# Altium footprint library MOLEX_53261.PcbLib: 1 footprints
Each footprint in its own frame and in the unit in brackets; x right, y up, seen from the top. Pads: shape width x height; smd on the part's side, far side on the other; paste and mask are expansions set on the pad; w line width, h text height; cw(c..) or ccw(c..) is an arc to the next point about the centre after c.
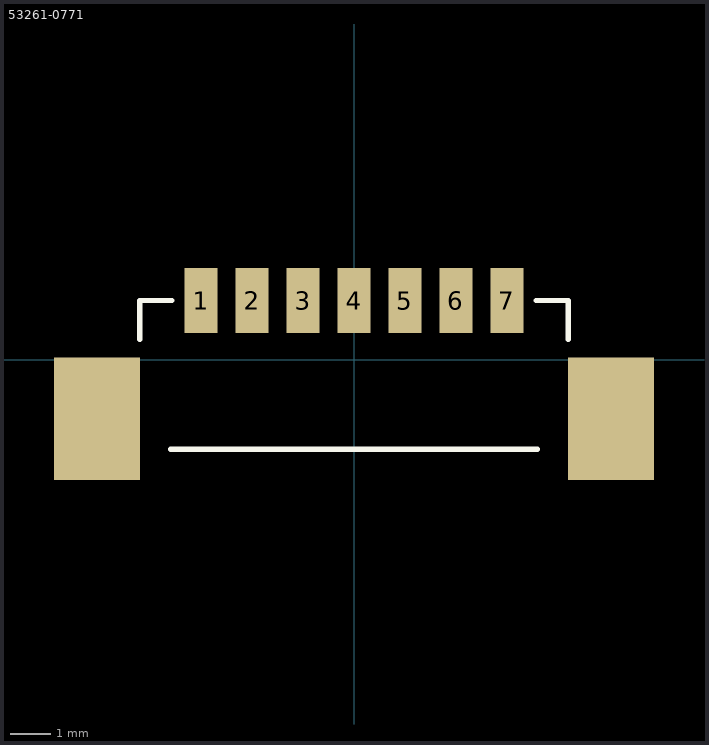
[diagram p0: the footprint, top view; thin cyan lines are the x and y axes]

## 53261-0771 [mm]
pads (9):
  rect 0.8x1.6 smd: 1(-3.75,1.45) 2(-2.5,1.45) 3(-1.25,1.45) 4(0,1.45) 5(1.25,1.45) 6(2.5,1.45) 7(3.75,1.45)
  rect 2.1x3 smd: ""(-6.3,-1.45) ""(6.3,-1.45)
Top Overlay:
  lines w0.127: -5.25,0.5 -5.25,1.45 -4.459,1.45 ; -4.5,-2.195 4.5,-2.195 ; 4.459,1.45 5.25,1.45 5.25,0.5
3D body "532610771.stp": height 3.4, standoff 0, extent -6.95,-3.604 6.95,1.596